# Altium footprint library SON_40P_M.PcbLib: 1 footprints
Each footprint in its own frame and in the unit in brackets; x right, y up, seen from the top. Pads: shape width x height; smd on the part's side, far side on the other; paste and mask are expansions set on the pad; w line width, h text height; cw(c..) or ccw(c..) is an arc to the next point about the centre after c.
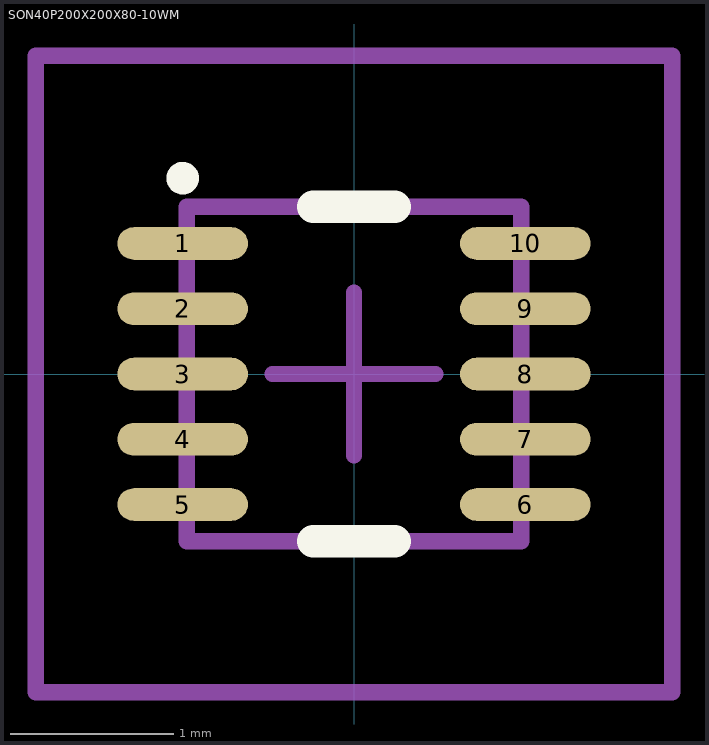
[diagram p0: the footprint, top view; thin cyan lines are the x and y axes]

## SON40P200X200X80-10WM [mm] "SON, 10-Leads, Body 2x2 mm, Pitch 0.4mm, IPC Low Density"
height 0.8
pads (10):
  oval 0.8x0.2 smd: 1(-1.05,0.8) 2(-1.05,0.4) 3(-1.05,0) 4(-1.05,-0.4) 5(-1.05,-0.8) 6(1.05,-0.8) 7(1.05,-0.4) 8(1.05,0) 9(1.05,0.4) 10(1.05,0.8)
Top Overlay:
  circle w0.1: c-1.05,1.2 r0.05
  lines w0.2: -0.25,-1.025 0.25,-1.025 ; -0.25,1.025 0.25,1.025
Mechanical 13:
  lines w0.1: -1.025,-1.025 1.025,-1.025 1.025,1.025 -1.025,1.025 -1.025,-1.025
Mechanical 15:
  lines w0.1: -0.5,0 0.5,0 ; 0,-0.5 0,0.5 ; -1.95,-1.95 1.95,-1.95 1.95,1.95 -1.95,1.95 -1.95,-1.95
3D body: height 0.8, standoff 0.02, extent -1.025,-1.025 1.025,1.025